# EAGLE library part DISP_OLED_UG-2828GDEDF11 (library SmartWatch)
128x128 1.5" RGB OLED - UG-2828GDEDF11 30-Pin 0.5mm Pitch FPC Cable (Top+Bottom Contacts) - OMRON XF2M-3015-1A (Digikey: OR723TR-ND) This FPC connector has contacts on the top and bottom, but the appropriate pin needs to be selected depending on whether the OLED will be inserted right-side up (use the TOP pinout) or upside-down (use the BOTTOM pinout).
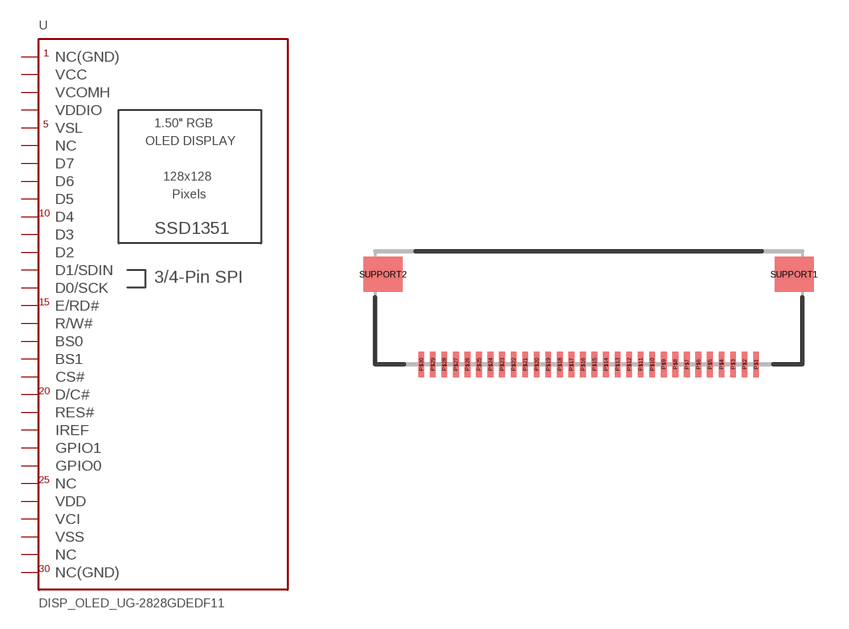
[diagram p0: symbol with the pads of FPC_XF2M-3015-1A; footprint FPC_XF2M-3015-1A]

Designator prefix U

## DISP_OLED_UG-2828GDEDF11BOTTOM  [FPC_XF2M-3015-1A]
P$1  NC(GND)  nc
P$2  VCC  pwr
P$3  VCOMH  pwr
P$4  VDDIO  pwr
P$5  VSL
P$6  NC  nc
P$7  D7
P$8  D6
P$9  D5
P$10  D4
P$11  D3
P$12  D2
P$13  D1/SDIN
P$14  D0/SCK
P$15  E/RD#
P$16  R/W#
P$17  BS0
P$18  BS1
P$19  CS#
P$20  D/C#
P$21  RES#
P$22  IREF
P$23  GPIO1
P$24  GPIO0
P$25  NC  nc
P$26  VDD  pwr
P$27  VCI  pwr
P$28  VSS  pwr
P$29  NC  nc
P$30  NC(GND)  nc

## DISP_OLED_UG-2828GDEDF11TOP  [FPC_XF2M-3015-1A]
P$1  NC(GND)  nc
P$2  NC  nc
P$3  VSS  pwr
P$4  VCI  pwr
P$5  VDD  pwr
P$6  NC  nc
P$7  GPIO0
P$8  GPIO1
P$9  IREF
P$10  RES#
P$11  D/C#
P$12  CS#
P$13  BS1
P$14  BS0
P$15  R/W#
P$16  E/RD#
P$17  D0/SCK
P$18  D1/SDIN
P$19  D2
P$20  D3
P$21  D4
P$22  D5
P$23  D6
P$24  D7
P$25  NC  nc
P$26  VSL
P$27  VDDIO  pwr
P$28  VCOMH  pwr
P$29  VCC  pwr
P$30  NC(GND)  nc

## Footprint FPC_XF2M-3015-1A (pad centres in mm)
30-Pin 0.5mm FPC Top+Bottom - OMRON - XF2M-3015-1A
smd 0.25 x 1.1: P$1 7.25,-2.63; P$2 6.75,-2.63; P$3 6.25,-2.63; P$4 5.75,-2.63; P$5 5.25,-2.63; P$6 4.75,-2.63; P$7 4.25,-2.63; P$8 3.75,-2.63; P$9 3.25,-2.63; P$10 2.75,-2.63; P$11 2.25,-2.63; P$12 1.75,-2.63; P$13 1.25,-2.63; P$14 0.75,-2.63; P$15 0.25,-2.63; P$16 -0.25,-2.63; P$17 -0.75,-2.63; P$18 -1.25,-2.63; P$19 -1.75,-2.63; P$20 -2.25,-2.63; P$21 -2.75,-2.63; P$22 -3.25,-2.63; P$23 -3.75,-2.63; P$24 -4.25,-2.63; P$25 -4.75,-2.63; P$26 -5.25,-2.63; P$27 -5.75,-2.63; P$28 -6.25,-2.63; P$29 -6.75,-2.63; P$30 -7.25,-2.63
smd 1.7 x 1.5: SUPPORT1 8.9,1.27; SUPPORT2 -8.9,1.27